# Altium footprint library magcontrol.PCBLIB: 54 footprints (part 3 of 4)
Each footprint in its own frame and in the unit in brackets; x right, y up, seen from the top. Pads: shape width x height; smd on the part's side, far side on the other; paste and mask are expansions set on the pad; w line width, h text height; cw(c..) or ccw(c..) is an arc to the next point about the centre after c.
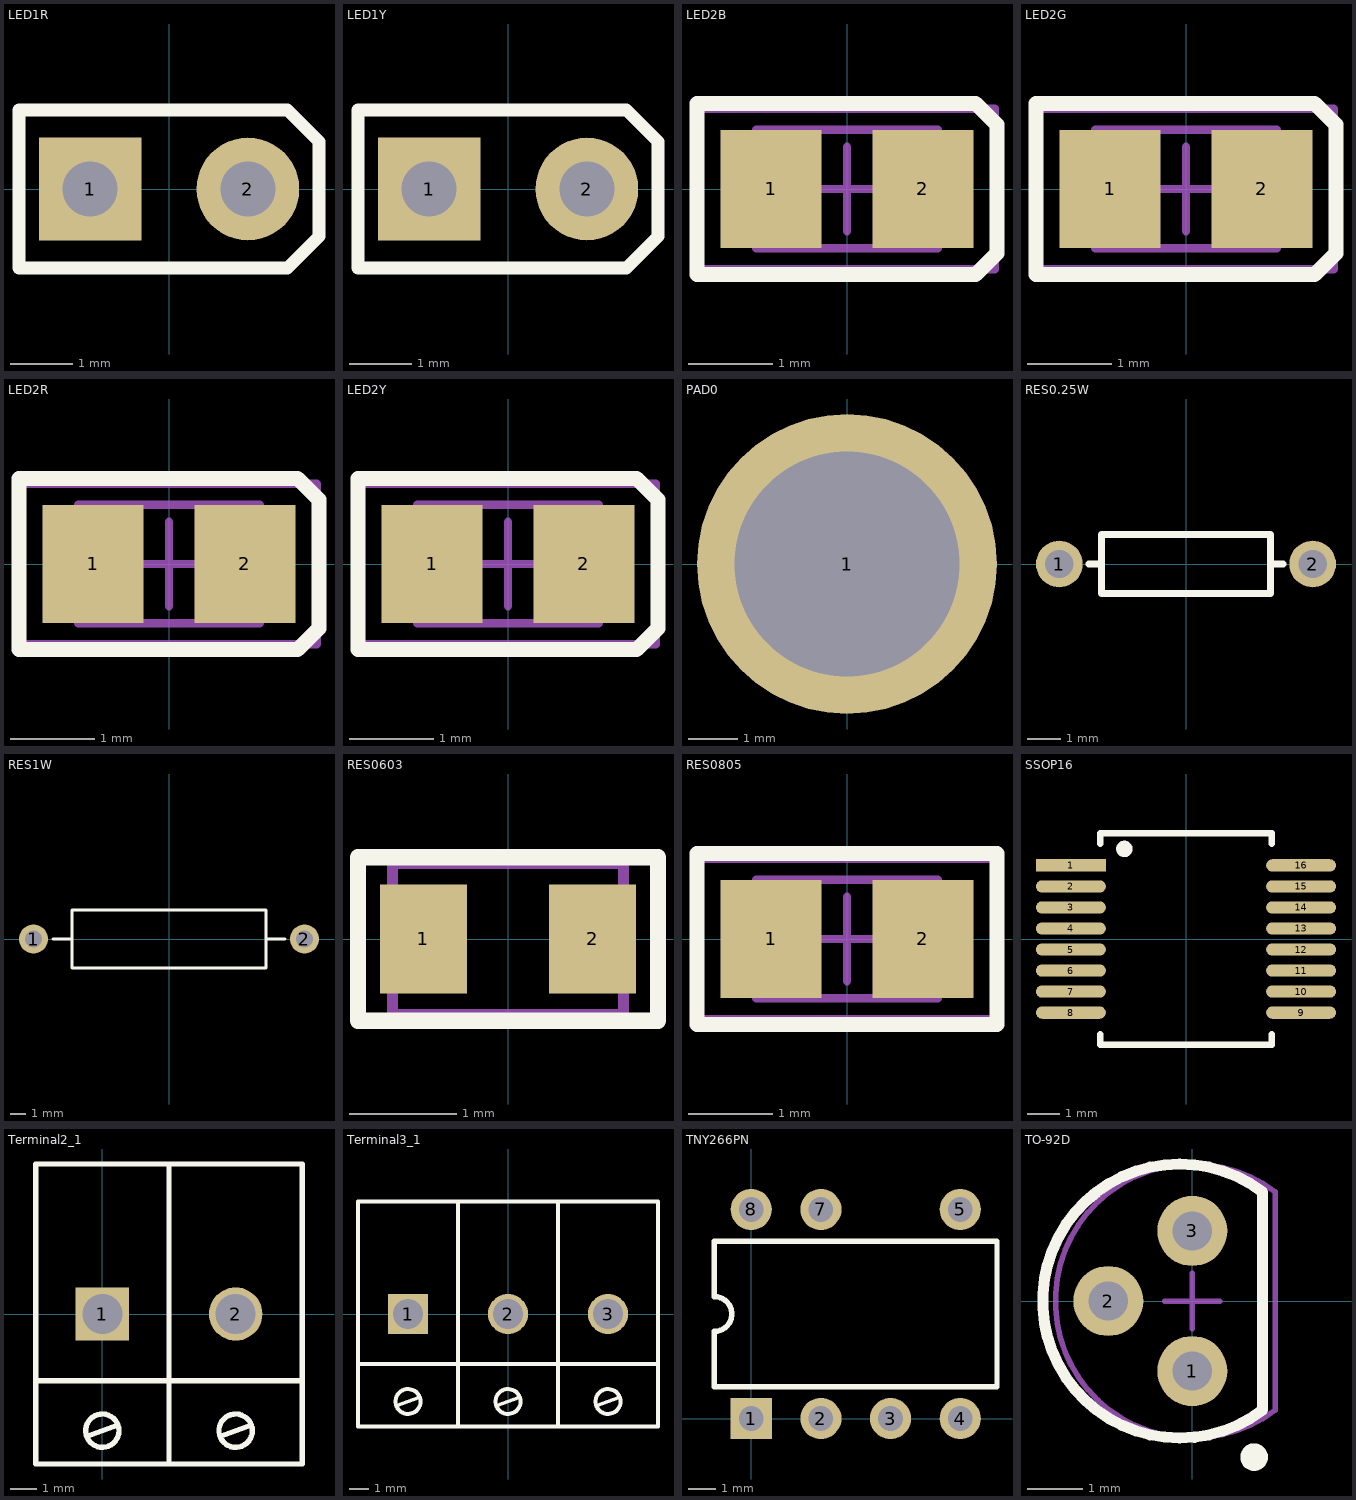
[diagram p2: the footprints below, top view; thin cyan lines are the x and y axes]

## LED1R [mm]
height 6
pads (2):
  rect 1.65x1.65 hole 0.889: 1(-1.27,0)
  round 1.65 hole 0.889: 2(1.27,0)
Top Overlay:
  lines w0.203: -2.413,-1.27 -2.413,1.27 1.905,1.27 2.413,0.762 2.413,-0.762 1.905,-1.27 -2.413,-1.27
3D body: height 6.72, standoff -0.48, extent -2,-1.998 1.52,1.998

## LED1Y [mm]
height 6
pads (2):
  rect 1.65x1.65 hole 0.889: 1(-1.27,0)
  round 1.65 hole 0.889: 2(1.27,0)
Top Overlay:
  lines w0.203: -2.413,-1.27 1.905,-1.27 2.413,-0.762 2.413,0.762 1.905,1.27 -2.413,1.27 -2.413,-1.27
3D body: height 6.72, standoff -0.48, extent -2,-1.998 1.52,1.998

## LED2B [mm]
height 6
pads (2):
  rect 1.2x1.4 smd: 1(-0.9,0) 2(0.9,0)
Top Overlay:
  lines w0.178: -1.778,-1.016 -1.778,1.016 1.524,1.016 1.778,0.762 1.778,-0.762 1.524,-1.016 -1.778,-1.016
Mechanical 13:
  lines w0.1: -1.075,-0.7 1.075,-0.7 1.075,0.7 -1.075,0.7 -1.075,-0.7
Mechanical 15:
  lines w0.1: -0.5,0 0.5,0 ; 0,-0.5 0,0.5 ; -1.75,-0.95 1.75,-0.95 1.75,0.95 -1.75,0.95 -1.75,-0.95
3D body: height 1.1, standoff 0, extent -1.01,-0.625 1.01,0.625

## LED2G [mm]
height 6
pads (2):
  rect 1.2x1.4 smd: 1(-0.9,0) 2(0.9,0)
Top Overlay:
  lines w0.178: -1.778,-1.016 1.524,-1.016 1.778,-0.762 1.778,0.762 1.524,1.016 -1.778,1.016 -1.778,-1.016
Mechanical 13:
  lines w0.1: -1.075,-0.7 -1.075,0.7 1.075,0.7 1.075,-0.7 -1.075,-0.7
Mechanical 15:
  lines w0.1: -0.5,0 0.5,0 ; 0,-0.5 0,0.5 ; -1.75,-0.95 -1.75,0.95 1.75,0.95 1.75,-0.95 -1.75,-0.95
3D body: height 1.1, standoff 0, extent -1.01,-0.65 1.01,0.6

## LED2R [mm]
height 6
pads (2):
  rect 1.2x1.4 smd: 1(-0.9,0) 2(0.9,0)
Top Overlay:
  lines w0.178: -1.778,-1.016 -1.778,1.016 1.524,1.016 1.778,0.762 1.778,-0.762 1.524,-1.016 -1.778,-1.016
Mechanical 13:
  lines w0.1: -1.075,-0.7 1.075,-0.7 1.075,0.7 -1.075,0.7 -1.075,-0.7
Mechanical 15:
  lines w0.1: -0.5,0 0.5,0 ; 0,-0.5 0,0.5 ; -1.75,-0.95 1.75,-0.95 1.75,0.95 -1.75,0.95 -1.75,-0.95
3D body: height 1.1, standoff 0, extent -1.01,-0.651 1.01,0.599

## LED2Y [mm]
height 6
pads (2):
  rect 1.2x1.4 smd: 1(-0.9,0) 2(0.9,0)
Top Overlay:
  lines w0.178: -1.778,-1.016 -1.778,1.016 1.524,1.016 1.778,0.762 1.778,-0.762 1.524,-1.016 -1.778,-1.016
Mechanical 13:
  lines w0.1: -1.075,-0.7 1.075,-0.7 1.075,0.7 -1.075,0.7 -1.075,-0.7
Mechanical 15:
  lines w0.1: -0.5,0 0.5,0 ; 0,-0.5 0,0.5 ; -1.75,-0.95 1.75,-0.95 1.75,0.95 -1.75,0.95 -1.75,-0.95
3D body: height 1.1, standoff 0, extent -1.01,-0.625 1.01,0.625

## PAD0 [mil]
pads (1):
  round 240 hole 180: 1(0,0)

## RES0.25W [mm] "Resistor; 2 Leads"
height 1.524
pads (2):
  round 1.4 hole 0.85: 1(-3.81,0) 2(3.81,0)
Top Overlay:
  lines w0.2: -2.921,0 -2.54,0 ; 2.54,0 2.921,0 ; -2.54,-0.889 2.54,-0.889 2.54,0.889 -2.54,0.889 -2.54,-0.889
3D body: height 2.24, standoff -1.27, extent -4.064,-0.927 4.064,1.016

## RES1W [mil] "Resistor; 2 Leads"
height 60
pads (2):
  round 75 hole 45: 1(-350,0) 2(350,0)
Top Overlay:
  lines w7.87: -300,0 -250,0 ; 250,0 300,0 ; -250,-75 -250,75 250,75 250,-75 -250,-75
3D body: height 263.23, standoff -150, extent -363.74,-118.94 367.75,116.96

## RES0603 [mil]
height 25
pads (2):
  rect 32x40 smd: 1(-31,0) 2(31,0)
Top Overlay:
  lines w6: -55,-30 55,-30 55,30 -55,30 -55,-30
Mechanical 13:
  lines w3.94: -42.32,-27.56 -42.32,27.56 42.32,27.56 42.32,-27.56 -42.32,-27.56
3D body: height 30, standoff 0, extent -29.99,-14.99 30.01,15

## RES0805 [mm]
height 0.762
pads (2):
  rect 1.2x1.4 smd: 1(-0.9,0) 2(0.9,0)
Top Overlay:
  lines w0.178: -1.778,-1.016 -1.778,1.016 1.778,1.016 1.778,-1.016 -1.778,-1.016
Mechanical 13:
  lines w0.1: -1.075,-0.7 1.075,-0.7 1.075,0.7 -1.075,0.7 -1.075,-0.7
Mechanical 15:
  lines w0.1: -0.5,0 0.5,0 ; 0,-0.5 0,0.5 ; -1.75,-0.95 1.75,-0.95 1.75,0.95 -1.75,0.95 -1.75,-0.95
3D body: height 0.76, standoff 0, extent -1.125,-0.69 1.175,0.66

## SSOP16 [mil]
pads (16):
  rect 85x15 smd: 1(-140,89.57)
  oval 85x15 smd: 2(-140,63.98) 3(-140,38.39) 4(-140,12.79) 5(-140,-12.79) 6(-140,-38.39) 7(-140,-63.98) 8(-140,-89.57) 9(140,-89.57) 10(140,-63.98) 11(140,-38.39) 12(140,-12.79) 13(140,12.79) 14(140,38.39) 15(140,63.98) 16(140,89.57)
Top Overlay:
  circle w10: c-75,109.57 r5
  lines w7.87: -104.57,-115.94 -104.57,-128.94 104.65,-128.94 ; -104.57,115.94 -104.57,128.94 ; -104,128.94 104.65,128.94 ; 104.49,-128.94 104.49,-115.94 ; 104.49,115.94 104.49,128.94
3D body: height 84.65, standoff 0, extent -152.65,-126.41 154.66,125.56

## Terminal2_1 [mil] "Connector; Header; 2 Position"
height 60
pads (2):
  rect 80x80 hole 60: 1(0,0)
  round 80 hole 60: 2(200,0)
Top Overlay:
  circle w8: c0,-175 r25
  circle w8: c200,-175 r25
  lines w7.87: -100,-100 300,-100 ; 100,-225 100,225 ; -100,-225 300,-225 300,225 -100,225 -100,-225
  lines w8: -23.49,-183.55 23.49,-166.45 ; 176.51,-183.55 223.49,-166.45
3D body: height 433.07, standoff -137.8, extent -119.68,-237.44 319.68,235

## Terminal3_1 [mil] "Connector; Header; 2 Position"
height 60
pads (3):
  rect 80x80 hole 60: 1(-200,0)
  round 80 hole 60: 2(0,0) 3(200,0)
Top Overlay:
  circle w8: c-200,-175 r25
  circle w8: c0,-175 r25
  circle w8: c200,-175 r25
  lines w7.87: -300,-100 300,-100 ; -100,-225 -100,225 ; 100,-225 100,225 ; -300,-225 300,-225 300,225 -300,225 -300,-225
  lines w8: -223.49,-183.55 -176.51,-166.45 ; -23.49,-183.55 23.49,-166.45 ; 176.51,-183.55 223.49,-166.45
3D body: height 433.07, standoff -137.8, extent -319.68,-237.44 319.68,235

## TNY266PN [mm] "DIP; 8 Leads; Row Spacing 7.62 mm; Pitch 2.54 mm"
height 5.08
pads (7):
  rect 1.5x1.5 hole 0.9: 1(0,0)
  round 1.5 hole 0.9: 2(2.54,0) 3(5.08,0) 4(7.62,0) 5(7.62,7.62) 7(2.54,7.62) 8(0,7.62)
Top Overlay:
  lines w0.2: -1.34,1.16 -1.34,3.175 ccw(c-1.34,3.81) -1.34,4.445 -1.34,6.46 8.96,6.46 8.96,1.16 -1.34,1.16
3D body: height 3.81, standoff 2.03, extent -1.341,1.159 8.961,6.461
3D body: height 3.05, standoff 1.02, extent -1.44,1.06 9.06,6.56
3D body: height 2.03, standoff 0, extent -0.317,-0.19 0.318,0.191
3D body: height 2.79, standoff 1.52, extent -0.444,-0.19 0.445,0.191
3D body: height 2.79, standoff 2.54, extent -0.444,0.191 0.445,1.143
3D body: height 2.79, standoff 2.54, extent 2.096,0.191 2.985,1.143
3D body: height 2.79, standoff 1.52, extent 2.096,-0.19 2.985,0.191
3D body: height 2.03, standoff 0, extent 2.223,-0.19 2.858,0.191
3D body: height 2.79, standoff 2.54, extent 4.636,0.191 5.525,1.143
3D body: height 2.79, standoff 1.52, extent 4.636,-0.19 5.525,0.191
3D body: height 2.03, standoff 0, extent 4.763,-0.19 5.398,0.191
3D body: height 2.79, standoff 2.54, extent 7.176,0.191 8.065,1.143
3D body: height 2.79, standoff 1.52, extent 7.176,-0.19 8.065,0.191
3D body: height 2.03, standoff 0, extent 7.303,-0.19 7.938,0.191
3D body: height 2.79, standoff 2.54, extent 7.175,6.477 8.064,7.429
3D body: height 2.79, standoff 1.52, extent 7.175,7.429 8.064,7.81
3D body: height 2.03, standoff 0, extent 7.302,7.429 7.937,7.81
3D body: height 2.79, standoff 2.54, extent 2.095,6.477 2.984,7.429
3D body: height 2.79, standoff 1.52, extent 2.095,7.429 2.984,7.81
3D body: height 2.03, standoff 0, extent 2.222,7.429 2.857,7.81
3D body: height 2.79, standoff 2.54, extent -0.445,6.477 0.444,7.429
3D body: height 2.79, standoff 1.52, extent -0.445,7.429 0.444,7.81
3D body: height 2.03, standoff 0, extent -0.318,7.429 0.317,7.81

## TO-92D [mil]
height 270.08
pads (3):
  round 50 hole 28: 1(0,-50) 2(-60,0) 3(0,50)
Top Overlay:
  circle w9.84: c44.09,-111.42 r4.92
  lines w7.87: 50,-77.95 cw(c-9.05,0) 50,77.95 50,-77.95
Mechanical 13:
  lines w3.94: 59.06,-77.95 cw(c0,0) 59.06,77.95 59.05,-77.95
Mechanical 15:
  lines w3.94: -19.68,0 19.68,0 ; 0,-19.68 0,19.69
3D body: height 314.96, standoff -119.01, extent -94.49,-94.48 60.24,94.49